# EAGLE library part NVMFWS1D7N04XMT1G (library NVMFWS1D7N04XMT1G)
Small Footprint (5x6 mm); Low RDS(on); Low QG and Capacitance; Wettable Flank Option; AECQ101 Qualified and PPAP Capable; RoHS Compliant Source: Datasheet <https://www.onsemi.com/pub/Collateral/NVMFWS1D7N04XM-D.PDF>
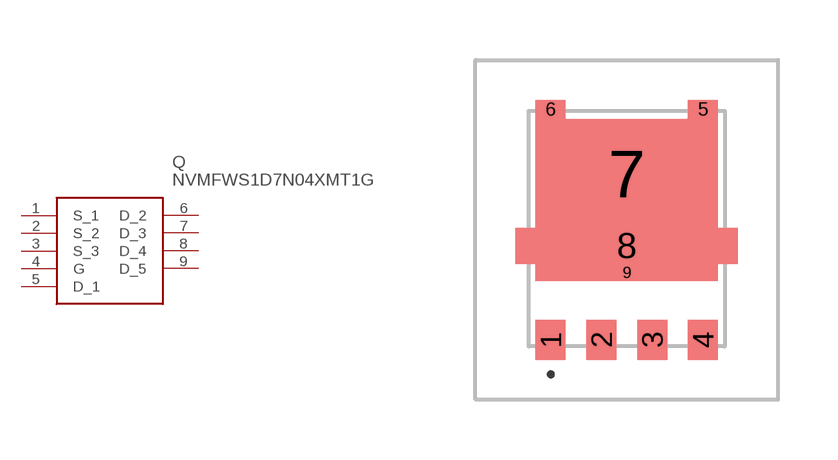
[diagram p0: symbol with the pads of NVMFWS3D0P04M8LT1G; footprint NVMFWS3D0P04M8LT1G]

Designator prefix Q

## NVMFWS1D7N04XMT1G (Description: Small Footprint (5x6 mm); Low RDS(on); Low QG and Capacitance; Wettable Flank Option; AECQ101 Qualified and PPAP Capable; RoHS Compliant; Height: 1.1mm; Manufacturer_Name: onsemi; Manufacturer_Part_Number: NVMFWS1D7N04XMT1G)  [NVMFWS3D0P04M8LT1G]
1  S_1
2  S_2
3  S_3
4  G
5  D_1
6  D_2
7  D_3
8  D_4
9  D_5

## Footprint NVMFWS3D0P04M8LT1G (pad centres in mm)
DFNW5 4.90x5.90x1.00, 1.27P CASE 507BA ISSUE C
smd 0.75 x 1: 1 -1.905,-2.75; 2 -0.635,-2.75; 3 0.635,-2.75; 4 1.905,-2.75
smd 0.75 x 0.48: 5 1.905,3.01; 6 -1.905,3.01
smd 4.56 x 2.72: 7 0,1.41
smd 5.56 x 0.91: 8 0,-0.405
smd 4.56 x 0.42: 9 0,-1.07